# Altium integrated library my_lib.IntLib: 49 symbols
Pins are listed as number, name and electrical type; pins without a type are passive.

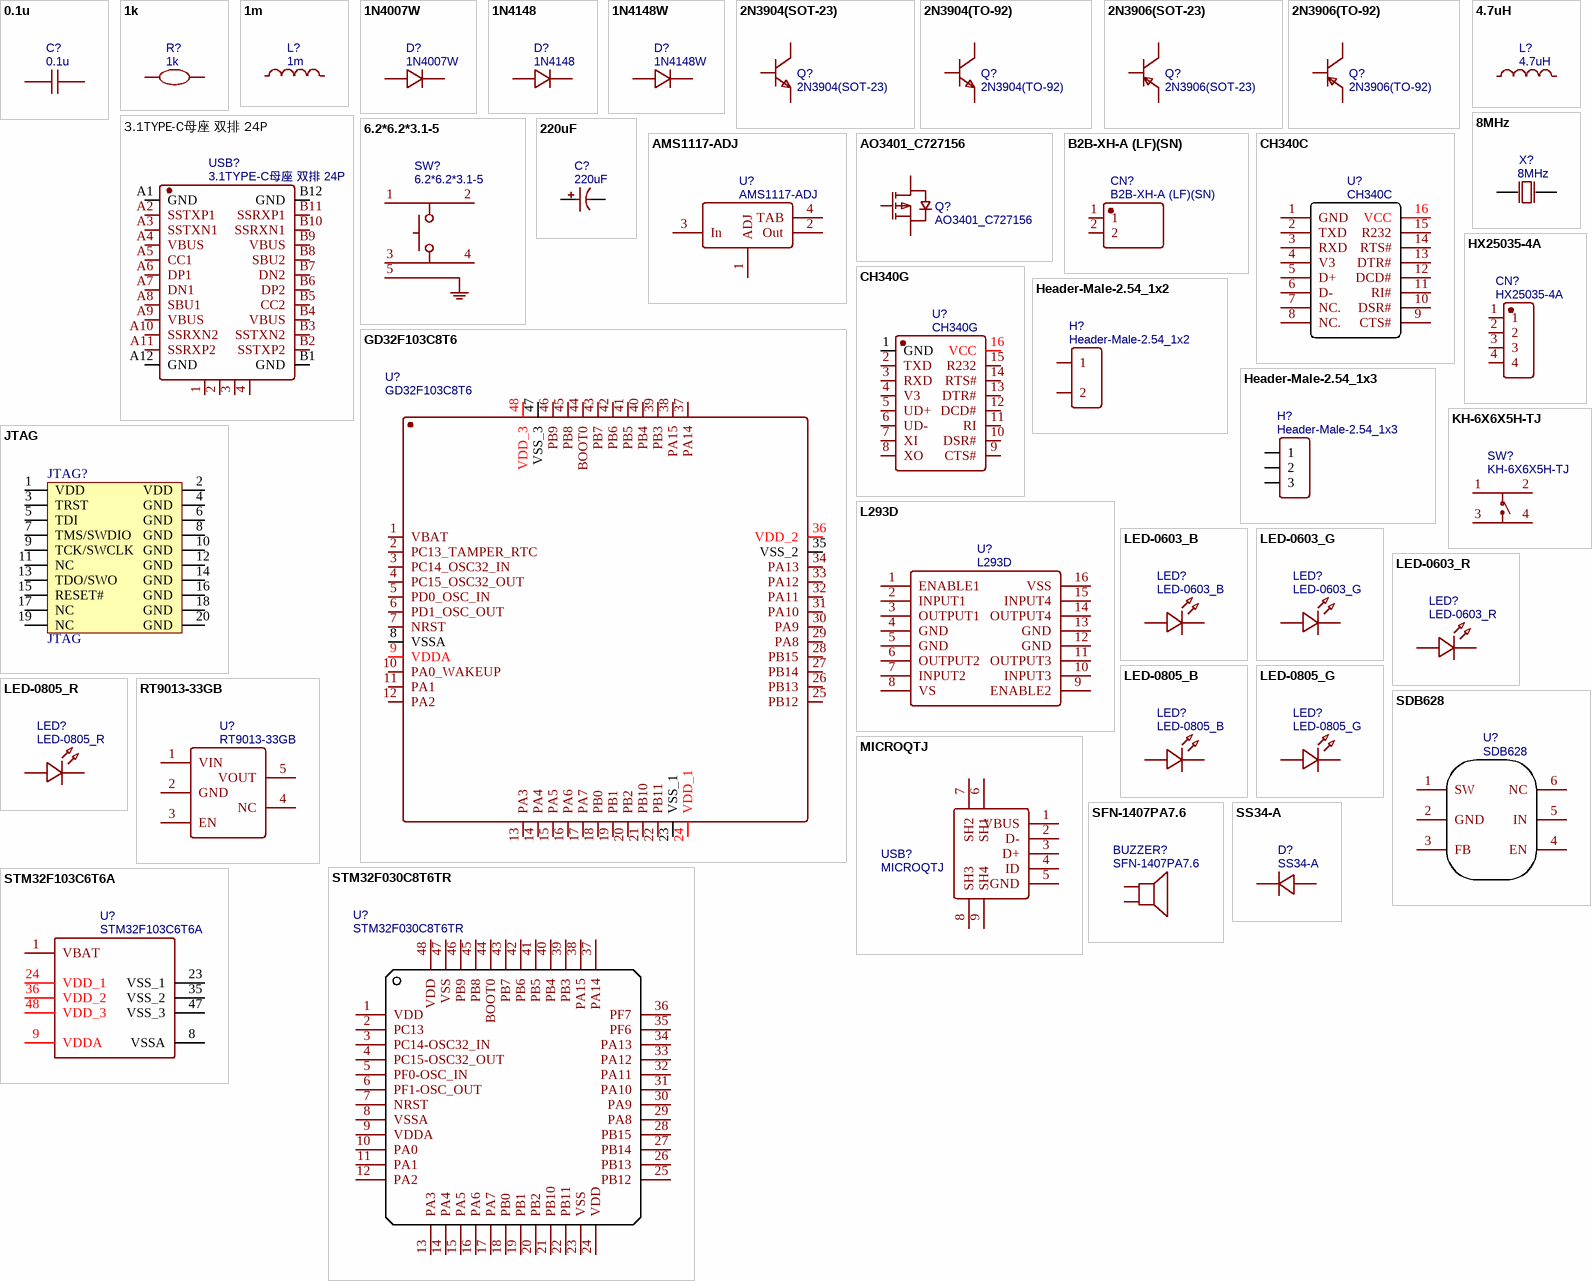
[diagram p0: symbols 0.1u to STM32F103C6T6A]

## 0.1u
designator C?
nameAlias: Value(F); Contributor: LCEDA_Lib; spicePre: C; spiceSymbolName: C_0603_US
footprint C0603
footprint C0201
footprint C0402
footprint C0805
footprint C1206
footprint RAD-0.1
footprint RAD-0.2
pins: 1, 2

## 1k
designator R?
Contributor: LCEDA_Lib; spicePre: R; spiceSymbolName: R_0603_EU
footprint R0603
footprint R0201
footprint R0402
footprint R0805
footprint R1206
footprint R1210
footprint R1812
footprint R2010
footprint R2512
pins: 1, 2

## 1m
designator L?
nameAlias: Value(H); Contributor: LCEDA_Lib; spicePre: L; spiceSymbolName: L0603_US
footprint L0603
footprint L0402
footprint L0805
pins: 1, 2

## 1N4007W
designator D?
BOM_Manufacturer: BLUE ROCKET; Contributor: LCEDA_Lib; BOM_Supplier: LCSC; BOM_Supplier Part: C328592; BOM_Manufacturer Part: 1N4007W; spicePre: D; spiceSymbolName: 1N4007W
footprint SOD-123_L2.8-W1.8-LS3.7-RD
pins: 1, 2

## 1N4148
designator D?
BOM_Manufacturer: SEMTECH; Contributor: LCEDA_Lib; BOM_Supplier: LCSC; BOM_Manufacturer Part: 1N4148; BOM_Supplier Part: C14516; spicePre: D; spiceSymbolName: 1N4148
footprint DO-35_BD2.0-L4.0-P8.00-D0.5-FD
pins: 1, 2

## 1N4148W
designator D?
BOM_Manufacturer: Tak Cheong; Contributor: LCEDA_Lib; BOM_Supplier: LCSC; BOM_Manufacturer Part: 1N4148W; BOM_Supplier Part: C129216; spicePre: D; spiceSymbolName: 1N4148W
footprint SOD-123FL_L2.6-W1.6-LS3.4-RD
pins: 1, 2

## 2N3904(SOT-23)
designator Q?
BOM_Manufacturer: KEC; BOM_Manufacturer Part: 2n3904S-RTK/PS; Contributor: LCEDA_Lib; BOM_Supplier: LCSC; BOM_Supplier Part: C18536; BOM_Paste Type: SOT-23; spicePre: Q; spiceSymbolName: 2N3904(SOT-23)
footprint SOT-23-3_L2.9-W1.3-P1.90-LS2.4-TR
pins: 1 E, 2 B, 3 C

## 2N3904(TO-92)
designator Q?
BOM_Manufacturer: SEMTECH; Contributor: LCEDA_Lib; BOM_Supplier: LCSC; BOM_Manufacturer Part: 2N3904; BOM_Supplier Part: C118538; spicePre: Q; spiceSymbolName: 2N3904(TO-92)
footprint TO-92-3_L5.1-W4.1-P1.27-L
pins: 1 E, 2 B, 3 C

## 2N3906(SOT-23)
designator Q?
BOM_Manufacturer: KEC; BOM_Manufacturer Part: 2N3906S-RTK/PS; Contributor: LCEDA_Lib; BOM_Supplier: LCSC; BOM_Supplier Part: C147294; spicePre: Q; spiceSymbolName: 2N3906(SOT-23)
footprint SOT-23-3_L2.9-W1.6-P1.90-LS2.8-TR-CW
pins: 1 E, 2 B, 3 C

## 2N3906(TO-92)
designator Q?
BOM_Manufacturer: CJ; Contributor: LCEDA_Lib; BOM_Supplier: LCSC; BOM_Manufacturer Part: 2N3906; BOM_Supplier Part: C9809; spicePre: Q; spiceSymbolName: 2N3906(TO-92)
footprint TO-92-3_L4.9-W3.7-P1.27-L
pins: 1 E, 2 B, 3 C

## 3.1TYPE-C母座 双排 24P
designator USB?
BOM_Manufacturer: XKB Enterprise; BOM_Manufacturer Part: U262-241N-4BV64; Contributor: LCSC; BOM_Supplier: LCSC; BOM_Supplier Part: C388660; BOM_JLCPCB Part Class: Extended Part; spicePre: U; spiceSymbolName: U262-241N-4BV64
footprint 3.1TYPE-C母座 双排 24P
pins: 1, 2, 3, 4, A1 GND, A2 SSTXP1, A3 SSTXN1, A4 VBUS, A5 CC1, A6 DP1, A7 DN1, A8 SBU1, A9 VBUS, A10 SSRXN2, A11 SSRXP2, A12 GND, B1 GND, B2 SSTXP2, B3 SSTXN2, B4 VBUS, B5 CC2, B6 DP2, B7 DN2, B8 SBU2, B9 VBUS, B10 SSRXN1, B11 SSRXP1, B12 GND

## 4.7uH
designator L?
BOM_Manufacturer: Prosperity Dielectrics; BOM_Manufacturer Part: MCS0630-4R7MN2; nameAlias: Inductance; Contributor: LCSC; BOM_Supplier: LCSC; BOM_Supplier Part: C385253; spicePre: L; spiceSymbolName: MCS0630-4R7MN2
footprint IND-SMD_L7.3-W6.6_MHCI06030
pins: 1, 2

## 6.2*6.2*3.1-5
designator SW?
BOM_Manufacturer: Yuandi; BOM_Manufacturer Part: TS-1080W-A3B3-D1; Contributor: LCSC; BOM_Supplier: LCSC; BOM_Supplier Part: C499302; BOM_JLCPCB Part Class: Extended Part; spicePre: S; spiceSymbolName: TS-1080W-A3B3-D1
footprint KEY-SMD_4P-L6.2-W6.5-P4.50-LS8.0_SKHMXX
pins: 1, 2, 3, 4, 5

## 8MHz
designator X?
BOM_Manufacturer: ZheJiang East Crystal Elec; BOM_Manufacturer Part: B08000J065; nameAlias: Frequency; Contributor: LCSC; BOM_Supplier: LCSC; BOM_Supplier Part: C258976; BOM_JLCPCB Part Class: Extended Part; spicePre: X; spiceSymbolName: B08000J065
footprint HC-49US_L11.5-W4.5-P4.88
pins: 1 OSC1, 2 OSC2

## 220uF
designator C?
BOM_Manufacturer: CapXon; BOM_Manufacturer Part: ZV221M016E077R; nameAlias: Capacitance; BOM_Supplier: LCSC; BOM_Supplier Part: C65226; BOM_JLCPCB Part Class: Extended Part; spicePre: C; spiceSymbolName: ZV221M016E077R
footprint CAP-SMD_BD6.3-L6.6-W6.6-FD
pins: 1, 2

## AMS1117-ADJ
designator U?
BOM_Manufacturer: AMS; sourceId: 0btnFXRxP; Contributor: GerryChen; BOM_Supplier: LCSC; BOM_Manufacturer Part: AMS1117-ADJ; BOM_Supplier Part: C6188; BOM_JLCPCB Part Class: Extended Part; spicePre: U; spiceSymbolName: AMS1117-ADJ
footprint SOT-223_L6.7-W3.5-P2.30-BR
pins: 1 ADJ, 2 Out, 3 In, 4 TAB

## AO3401_C727156
designator Q?
BOM_Manufacturer: TWGMC; BOM_Manufacturer Part: AO3401; Contributor: LCSC; BOM_Supplier: LCSC; BOM_Supplier Part: C727156; BOM_JLCPCB Part Class: Extended Part; spicePre: Q; spiceSymbolName: AO3401_C727156
footprint SOT-23-3_L2.9-W1.6-P1.90-LS2.8-BR
pins: 1 G, 2 S, 3 D

## B2B-XH-A (LF)(SN)
designator CN?
BOM_Manufacturer: JST Sales America; Contributor: LCSC; BOM_Supplier: LCSC; BOM_Supplier Part: C158012; BOM_Manufacturer Part: -; BOM_JLCPCB Part Class: Extended Part; spicePre: C; spiceSymbolName: B2B-XH-A (LF)(SN)
footprint CONN-TH_B2B-XH-A-LF-SN
pins: 1, 2

## CH340C
designator U?
BOM_Manufacturer: WCH; BOM_Supplier: LCSC; BOM_Manufacturer Part: CH340C; BOM_Supplier Part: C84681; BOM_JLCPCB Part Class: Extended Part; spicePre: U; spiceSymbolName: CH340C
footprint SOP-16_L10.0-W3.9-P1.27-LS6.0-BL
pins: 1 GND, 2 TXD, 3 RXD, 4 V3, 5 D+, 6 D-, 7 NC., 8 NC., 9 CTS#, 10 DSR#, 11 RI#, 12 DCD#, 13 DTR#, 14 RTS#, 15 R232, 16 VCC

## CH340G
designator U?
BOM_Manufacturer: WCH; timeStamp: 1468327462; BOM_Supplier: LCSC; BOM_Manufacturer Part: CH340G; BOM_Supplier Part: C14267; BOM_JLCPCB Part Class: Basic Part; spicePre: U; spiceSymbolName: CH340G
footprint SOIC-16_L9.9-W3.9-P1.27-LS6.0-BR
pins: 1 GND, 2 TXD, 3 RXD, 4 V3, 5 UD+, 6 UD-, 7 XI, 8 XO, 9 CTS#, 10 DSR#, 11 RI, 12 DCD#, 13 DTR#, 14 RTS#, 15 R232, 16 VCC

## GD32F103C8T6
designator U?
BOM_Manufacturer: GigaDevice; BOM_Supplier: LCSC; BOM_Manufacturer Part: GD32F103C8T6; BOM_Supplier Part: C77994; BOM_JLCPCB Part Class: Extended Part; spicePre: U; spiceSymbolName: GD32F103C8T6
footprint TQFP-48_L7.0-W7.0-P0.50-LS9.0-BL
pins: 1 VBAT, 2 PC13_TAMPER_RTC, 3 PC14_OSC32_IN, 4 PC15_OSC32_OUT, 5 PD0_OSC_IN, 6 PD1_OSC_OUT, 7 NRST, 8 VSSA, 9 VDDA, 10 PA0_WAKEUP, 11 PA1, 12 PA2, 13 PA3, 14 PA4, 15 PA5, 16 PA6, 17 PA7, 18 PB0, 19 PB1, 20 PB2, 21 PB10, 22 PB11, 23 VSS_1, 24 VDD_1, 25 PB12, 26 PB13, 27 PB14, 28 PB15, 29 PA8, 30 PA9, 31 PA10, 32 PA11, 33 PA12, 34 PA13, 35 VSS_2, 36 VDD_2, 37 PA14, 38 PA15, 39 PB3, 40 PB4, 41 PB5, 42 PB6, 43 PB7, 44 BOOT0, 45 PB8, 46 PB9, 47 VSS_3, 48 VDD_3

## Header-Male-2.54_1x2
designator H?
BOM_Manufacturer: TE Connectivity; BOM_Manufacturer Part: 826629-2; BOM_Supplier: LCSC; BOM_Supplier Part: C86471; BOM_JLCPCB Part Class: Extended Part; spicePre: H; spiceSymbolName: Header-Male-2.54_1x2
footprint HDR-TH_2P-P2.54-V-M-1
pins: 1, 2

## Header-Male-2.54_1x3
designator H?
BOM_Manufacturer: BOOMELE; BOM_Manufacturer Part: Header2.54mm 1*3P; BOM_Supplier: LCSC; BOM_Supplier Part: C49257; BOM_JLCPCB Part Class: Extended Part; spicePre: H; spiceSymbolName: Header-Male-2.54_1x3
footprint HDR-TH_3P-P2.54-V-M-1
pins: 1, 2, 3

## HX25035-4A
designator CN?
BOM_Manufacturer: HX(Zhejiang Yueqing Hongxing Elec); Contributor: LCSC; BOM_Supplier: LCSC; BOM_Supplier Part: C442380; BOM_Manufacturer Part: HX25035-4A; BOM_JLCPCB Part Class: Extended Part; spicePre: C; spiceSymbolName: HX25035-4A
footprint CONN-TH_4P-P2.50_HX25035-4A
footprint HDR-TH_4P-P2.54-V-F-R1-C4
pins: 1, 2, 3, 4

## JTAG
designator JTAG?
footprint JTAG (ULINK_JTAG-20)
footprint JTAG_20 (JTAG,20PIN)
pins: 1 VDD, 2 VDD, 3 TRST, 4 GND, 5 TDI, 6 GND, 7 TMS/SWDIO, 8 GND, 9 TCK/SWCLK, 10 GND, 11 NC, 12 GND, 13 TDO/SWO, 14 GND, 15 RESET#, 16 GND, 17 NC, 18 GND, 19 NC, 20 GND

## KH-6X6X5H-TJ
designator SW?
Contributor: LCSC; BOM_Supplier: LCSC; BOM_Supplier Part: C2837515; BOM_Manufacturer Part: KH-6X6X5H-TJ; BOM_JLCPCB Part Class: Extended Part; spicePre: S; spiceSymbolName: KH-6X6X5H-TJ
footprint SW-TH_4P-L6.0-W6.0-P4.50-LS6.5
pins: 1, 2, 3, 4

## L293D
designator U?
BOM_Manufacturer: STMicroelectronics; Contributor: pitreluc; BOM_Supplier: LCSC; BOM_Manufacturer Part: L293D; BOM_Supplier Part: C12340; BOM_JLCPCB Part Class: Extended Part; spicePre: U; spiceSymbolName: L293D
footprint DIP-16_L20.0-W6.4-P2.54-LS7.6-BL
pins: 1 ENABLE1, 2 INPUT1, 3 OUTPUT1, 4 GND, 5 GND, 6 OUTPUT2, 7 INPUT2, 8 VS, 9 ENABLE2, 10 INPUT3, 11 OUTPUT3, 12 GND, 13 GND, 14 OUTPUT4, 15 INPUT4, 16 VSS

## LED-0603_B
designator LED?
BOM_Manufacturer Part: 19-217/BHC-ZL1M2RY/3T; Contributor: LCEDA_01; BOM_Supplier Part: C72041; BOM_Supplier: LCSC; spicePre: L; spiceSymbolName: LED-0603_B
footprint LED0603_BLUE
pins: 1, 2

## LED-0603_G
designator LED?
BOM_Manufacturer Part: 19-217/GHC-YR1S2/3T; Contributor: LCEDA_Lib; BOM_Supplier Part: C72043; BOM_Supplier: LCSC; spicePre: L; spiceSymbolName: LED-0603_G
footprint LED0603_GREEN
pins: 1, 2

## LED-0603_R
designator LED?
BOM_Manufacturer Part: 19-217/R6C-AL1M2VY/3T; Contributor: LCEDA_01; BOM_Supplier Part: C72044; BOM_Supplier: LCSC; spicePre: L; spiceSymbolName: LED-0603_R
footprint LED0603_RED
pins: 1, 2

## LED-0805_B
designator LED?
BOM_Manufacturer Part: D-B080508B1-KS2; Contributor: LCEDA_Lib; BOM_Supplier Part: C108412; spicePre: L; spiceSymbolName: LED-0805_B
footprint LED0805_BLUE
pins: 1, 2

## LED-0805_G
designator LED?
BOM_Manufacturer Part: NCD0805G1; Contributor: LCEDA_Lib; BOM_Supplier Part: C84260; spicePre: L; spiceSymbolName: LED-0805_G
footprint LED0805_GREEN
pins: 1, 2

## LED-0805_R
designator LED?
BOM_Manufacturer Part: 17-21SURC/S530-A3/TR8; Contributor: LCEDA_Lib; BOM_Supplier Part: C72037; spicePre: L; spiceSymbolName: LED-0805_R
footprint LED0805_RED
pins: 1, 2

## MICROQTJ
designator USB?
BOM_Manufacturer: SHOU HAN; Contributor: LCSC; BOM_Supplier: LCSC; BOM_Supplier Part: C404968; BOM_Manufacturer Part: MicroQTJ; BOM_JLCPCB Part Class: Extended Part; spicePre: U; spiceSymbolName: MICROQTJ
footprint MICRO-USB-SMD_MICROQTJ
pins: 1 VBUS, 2 D-, 3 D+, 4 ID, 5 GND, 6 SH1, 7 SH2, 8 SH3, 9 SH4

## RT9013-33GB
designator U?
BOM_Manufacturer: RICHTEK; BOM_Supplier: LCSC; BOM_Manufacturer Part: RT9013-33GB; BOM_Supplier Part: C47773; BOM_JLCPCB Part Class: Extended Part; spicePre: U; spiceSymbolName: RT9013-33GB
footprint SOT-23-5_L3.0-W1.7-P0.95-LS2.8-BR
pins: 1 VIN, 2 GND, 3 EN, 4 NC, 5 VOUT

## SDB628
designator U?
BOM_Manufacturer: SHOUDING; BOM_Supplier: LCSC; BOM_Manufacturer Part: SDB628; BOM_Supplier Part: C77805; BOM_JLCPCB Part Class: Extended Part; spicePre: U; spiceSymbolName: SDB628
footprint SOT-23-6_L2.9-W1.6-P0.95-LS2.8-BR
pins: 1 SW, 2 GND, 3 FB, 4 EN, 5 IN, 6 NC

## SFN-1407PA7.6
designator BUZZER?
BOM_Manufacturer: S&S; Contributor: LCSC; BOM_Supplier: LCSC; BOM_Supplier Part: C360603; BOM_Manufacturer Part: SFN-1407PA7.6; BOM_JLCPCB Part Class: Extended Part; spicePre: B; spiceSymbolName: SFN-1407PA7.6
footprint BUZ-TH_BD14.0-P7.60-D0.7-FD
pins: 1, 2

## SS34-A
designator D?
BOM_Manufacturer: Formosa Microsemi; Contributor: LCSC; BOM_Supplier: LCSC; BOM_Supplier Part: C143201; BOM_Manufacturer Part: SS34-A; BOM_JLCPCB Part Class: Extended Part; spicePre: D; spiceSymbolName: SS34-A
footprint SMA_L4.3-W2.6-LS5.2-RD
pins: 1 C, 2 A

## STM32F030C8T6TR
designator U?
BOM_Manufacturer: STMicroelectronics; BOM_Supplier: LCSC; BOM_Manufacturer Part: STM32F030C8T6TR; BOM_Supplier Part: C40053; BOM_JLCPCB Part Class: Extended Part; spicePre: U; spiceSymbolName: STM32F030C8T6TR
footprint LQFP-48_L7.0-W7.0-P0.50-LS9.0-TL
pins: 1 VDD, 2 PC13, 3 PC14-OSC32_IN, 4 PC15-OSC32_OUT, 5 PF0-OSC_IN, 6 PF1-OSC_OUT, 7 NRST, 8 VSSA, 9 VDDA, 10 PA0, 11 PA1, 12 PA2, 13 PA3, 14 PA4, 15 PA5, 16 PA6, 17 PA7, 18 PB0, 19 PB1, 20 PB2, 21 PB10, 22 PB11, 23 VSS, 24 VDD, 25 PB12, 26 PB13, 27 PB14, 28 PB15, 29 PA8, 30 PA9, 31 PA10, 32 PA11, 33 PA12, 34 PA13, 35 PF6, 36 PF7, 37 PA14, 38 PA15, 39 PB3, 40 PB4, 41 PB5, 42 PB6, 43 PB7, 44 BOOT0, 45 PB8, 46 PB9, 47 VSS, 48 VDD

## STM32F103C6T6A
designator U?
BOM_Manufacturer: ST; subpart_no: 2; tags: STM32; BOM_Supplier Part: C8303; BOM_Supplier: LCSC; BOM_Manufacturer Part: STM32F103C6T6A; image: http://image.lceda.cn/szlcsc/C8303.jpg; BOM_JLCPCB Part Class: Extended Part; spicePre: U; spiceSymbolName: STM32F103C6T6A
footprint LQFP-48_L7.0-W7.0-P0.50-LS9.0-BL
pins: 1 VBAT, 8 VSSA, 9 VDDA, 23 VSS_1, 24 VDD_1, 35 VSS_2, 36 VDD_2, 47 VSS_3, 48 VDD_3

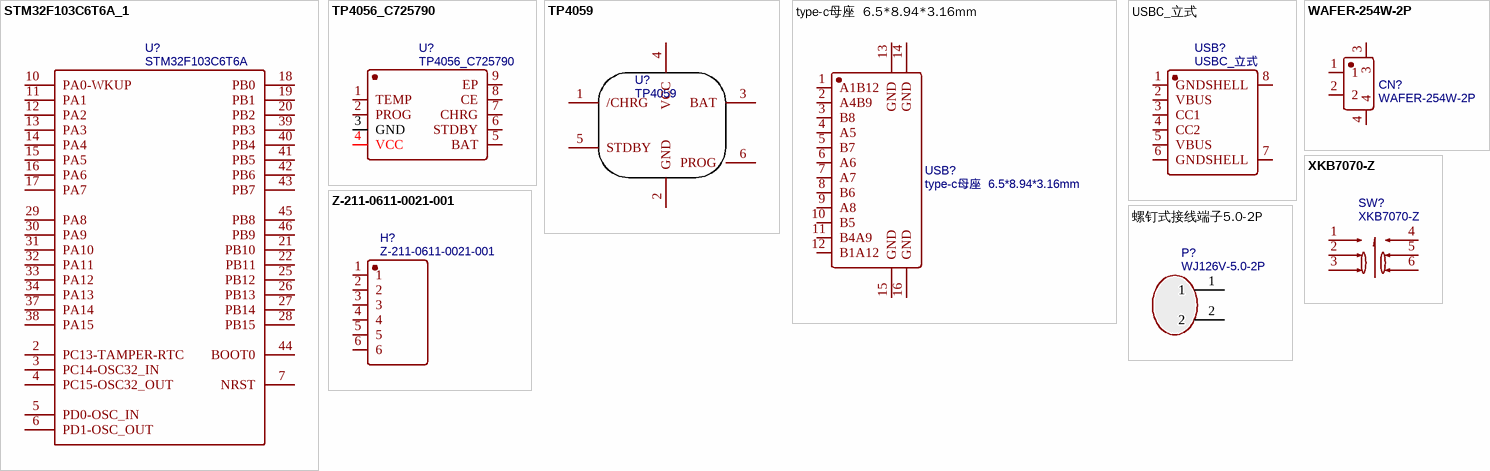
[diagram p1: symbols STM32F103C6T6A_1 to 螺钉式接线端子5.0-2P]

## STM32F103C6T6A_1
designator U?, comment STM32F103C6T6A
BOM_Manufacturer: ST; subpart_no: 2; tags: STM32; BOM_Supplier Part: C8303; BOM_Supplier: LCSC; BOM_Manufacturer Part: STM32F103C6T6A; image: http://image.lceda.cn/szlcsc/C8303.jpg; BOM_JLCPCB Part Class: Extended Part; spicePre: U; spiceSymbolName: STM32F103C6T6A
footprint LQFP-48_L7.0-W7.0-P0.50-LS9.0-BL
pins: 2 PC13-TAMPER-RTC, 3 PC14-OSC32_IN, 4 PC15-OSC32_OUT, 5 PD0-OSC_IN, 6 PD1-OSC_OUT, 7 NRST, 10 PA0-WKUP, 11 PA1, 12 PA2, 13 PA3, 14 PA4, 15 PA5, 16 PA6, 17 PA7, 18 PB0, 19 PB1, 20 PB2, 21 PB10, 22 PB11, 25 PB12, 26 PB13, 27 PB14, 28 PB15, 29 PA8, 30 PA9, 31 PA10, 32 PA11, 33 PA12, 34 PA13, 37 PA14, 38 PA15, 39 PB3, 40 PB4, 41 PB5, 42 PB6, 43 PB7, 44 BOOT0, 45 PB8, 46 PB9

## TP4056_C725790
designator U?
BOM_Manufacturer: UMW(Youtai Semiconductor Co., Ltd.); BOM_Manufacturer Part: TP4056; Contributor: LCSC; BOM_Supplier: LCSC; BOM_Supplier Part: C725790; BOM_JLCPCB Part Class: Extended Part; spicePre: U; spiceSymbolName: TP4056_C725790
footprint ESOP-8_L4.9-W3.9-P1.27-LS6.0-BL-EP
pins: 1 TEMP, 2 PROG, 3 GND, 4 VCC, 5 BAT, 6 STDBY, 7 CHRG, 8 CE, 9 EP

## TP4059
designator U?
BOM_Manufacturer: TOPPOWER; BOM_Supplier: LCSC; BOM_Manufacturer Part: TP4059; BOM_Supplier Part: C80364; BOM_JLCPCB Part Class: Extended Part; spicePre: U; spiceSymbolName: TP4059
footprint SOT-23-6_L2.9-W1.6-P0.95-LS2.8-BR
pins: 1 /CHRG, 2 GND, 3 BAT, 4 VCC, 5 STDBY, 6 PROG

## type-c母座  6.5*8.94*3.16mm
designator USB?
BOM_Manufacturer: G-Switch(品赞); BOM_Manufacturer Part: GT-USB-7014B; Contributor: LCSC; BOM_Supplier: LCSC; BOM_Supplier Part: C963372; BOM_JLCPCB Part Class: Extended Part; spicePre: U; spiceSymbolName: GT-USB-7014B
footprint type-c母座  6.5*8.94*3.16mm
pins: 1 A1B12, 2 A4B9, 3 B8, 4 A5, 5 B7, 6 A6, 7 A7, 8 B6, 9 A8, 10 B5, 11 B4A9, 12 B1A12, 13 GND, 14 GND, 15 GND, 16 GND

## USBC_立式
designator USB?
BOM_Manufacturer: G-Switch(品赞); BOM_Manufacturer Part: GT-USB-7060B; Contributor: LCSC; BOM_Supplier: LCSC; BOM_Supplier Part: C2686965; BOM_JLCPCB Part Class: Extended Part; spicePre: U; spiceSymbolName: GT-USB-7060B
footprint USBC_立式
pins: 1 GND, 2 VBUS, 3 CC1, 4 CC2, 5 VBUS, 6 GND, 7 SHELL, 8 SHELL

## WAFER-254W-2P
designator CN?
Contributor: LCSC; BOM_Supplier: LCSC; BOM_Supplier Part: C2856693; BOM_Manufacturer Part: WAFER-254W-2P; BOM_JLCPCB Part Class: Extended Part; spicePre: C; spiceSymbolName: WAFER-254W-2P
footprint CONN-SMD_2P-L10.0-W7.8-P2.5
pins: 1, 2, 3, 4

## XKB7070-Z
designator SW?
BOM_Manufacturer: XKB Enterprise; Contributor: LCSC; BOM_Supplier: LCSC; BOM_Supplier Part: C318863; BOM_Manufacturer Part: XKB7070-Z; BOM_JLCPCB Part Class: Extended Part; spicePre: S; spiceSymbolName: XKB7070-Z
footprint SW-TH_6P-L7.0-W7.0-P2.00
pins: 1, 2, 3, 4, 5, 6

## Z-211-0611-0021-001
designator H?
BOM_Manufacturer: Nextronics Engineering; Contributor: LCSC; BOM_Supplier: LCSC; BOM_Supplier Part: C190819; BOM_Manufacturer Part: Z-211-0611-0021-001; BOM_JLCPCB Part Class: Extended Part; spicePre: H; spiceSymbolName: Z-211-0611-0021-001
footprint HDR-TH_6P-P2.54-V_Z-211-0611-0021-001
pins: 1, 2, 3, 4, 5, 6

## 螺钉式接线端子5.0-2P
designator P?, comment WJ126V-5.0-2P
BOM_Manufacturer: ReliaPro; BOM_Supplier: LCSC; BOM_Manufacturer Part: WJ126V-5.0-2P; BOM_Supplier Part: C8404; BOM_JLCPCB Part Class: Extended Part; spicePre: P; spiceSymbolName: WJ126V-5.0-2P
footprint CONN-TH_WJ126V-5.0-2P
footprint 螺钉式接线端子-2P-5.0
pins: 1, 2